# EAGLE library part 766161104GP (library nest_interface)
15x 100k resistor array bussed
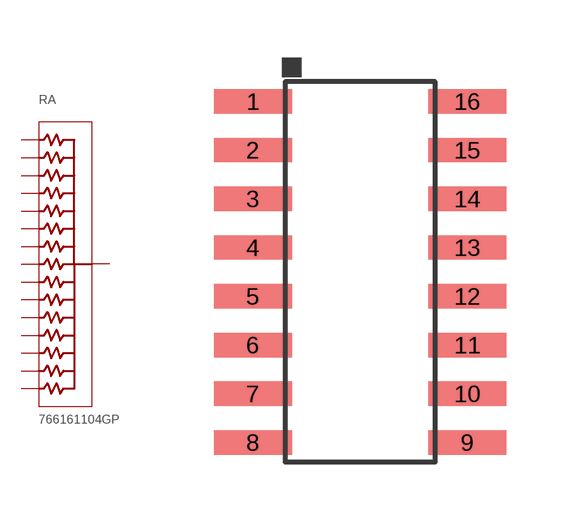
[diagram p3: symbol with the pads of SOIC-16; footprint SOIC-16]

Designator prefix RA

## 766161104GP (DIGIKEY: 766-161-R100KP-ND)  [SOIC-16]
1  1
2  2
3  3
4  4
5  5
6  6
7  7
8  8
9  9
10  10
11  11
12  12
13  13
14  14
15  15
16  OUT

## Footprint SOIC-16 (pad centres in mm)
smd 2.032 x 0.635: 1 -2.794,4.445; 2 -2.794,3.175; 3 -2.794,1.905; 4 -2.794,0.635; 5 -2.794,-0.635; 6 -2.794,-1.905; 7 -2.794,-3.175; 8 -2.794,-4.445; 9 2.794,-4.445; 10 2.794,-3.175; 11 2.794,-1.905; 12 2.794,-0.635; 13 2.794,0.635; 14 2.794,1.905; 15 2.794,3.175; 16 2.794,4.445